# Altium schematic symbol library LPC4330FET180.Schlib: 1 symbol
Pins are listed as number, name and electrical type; pins without a type are passive.

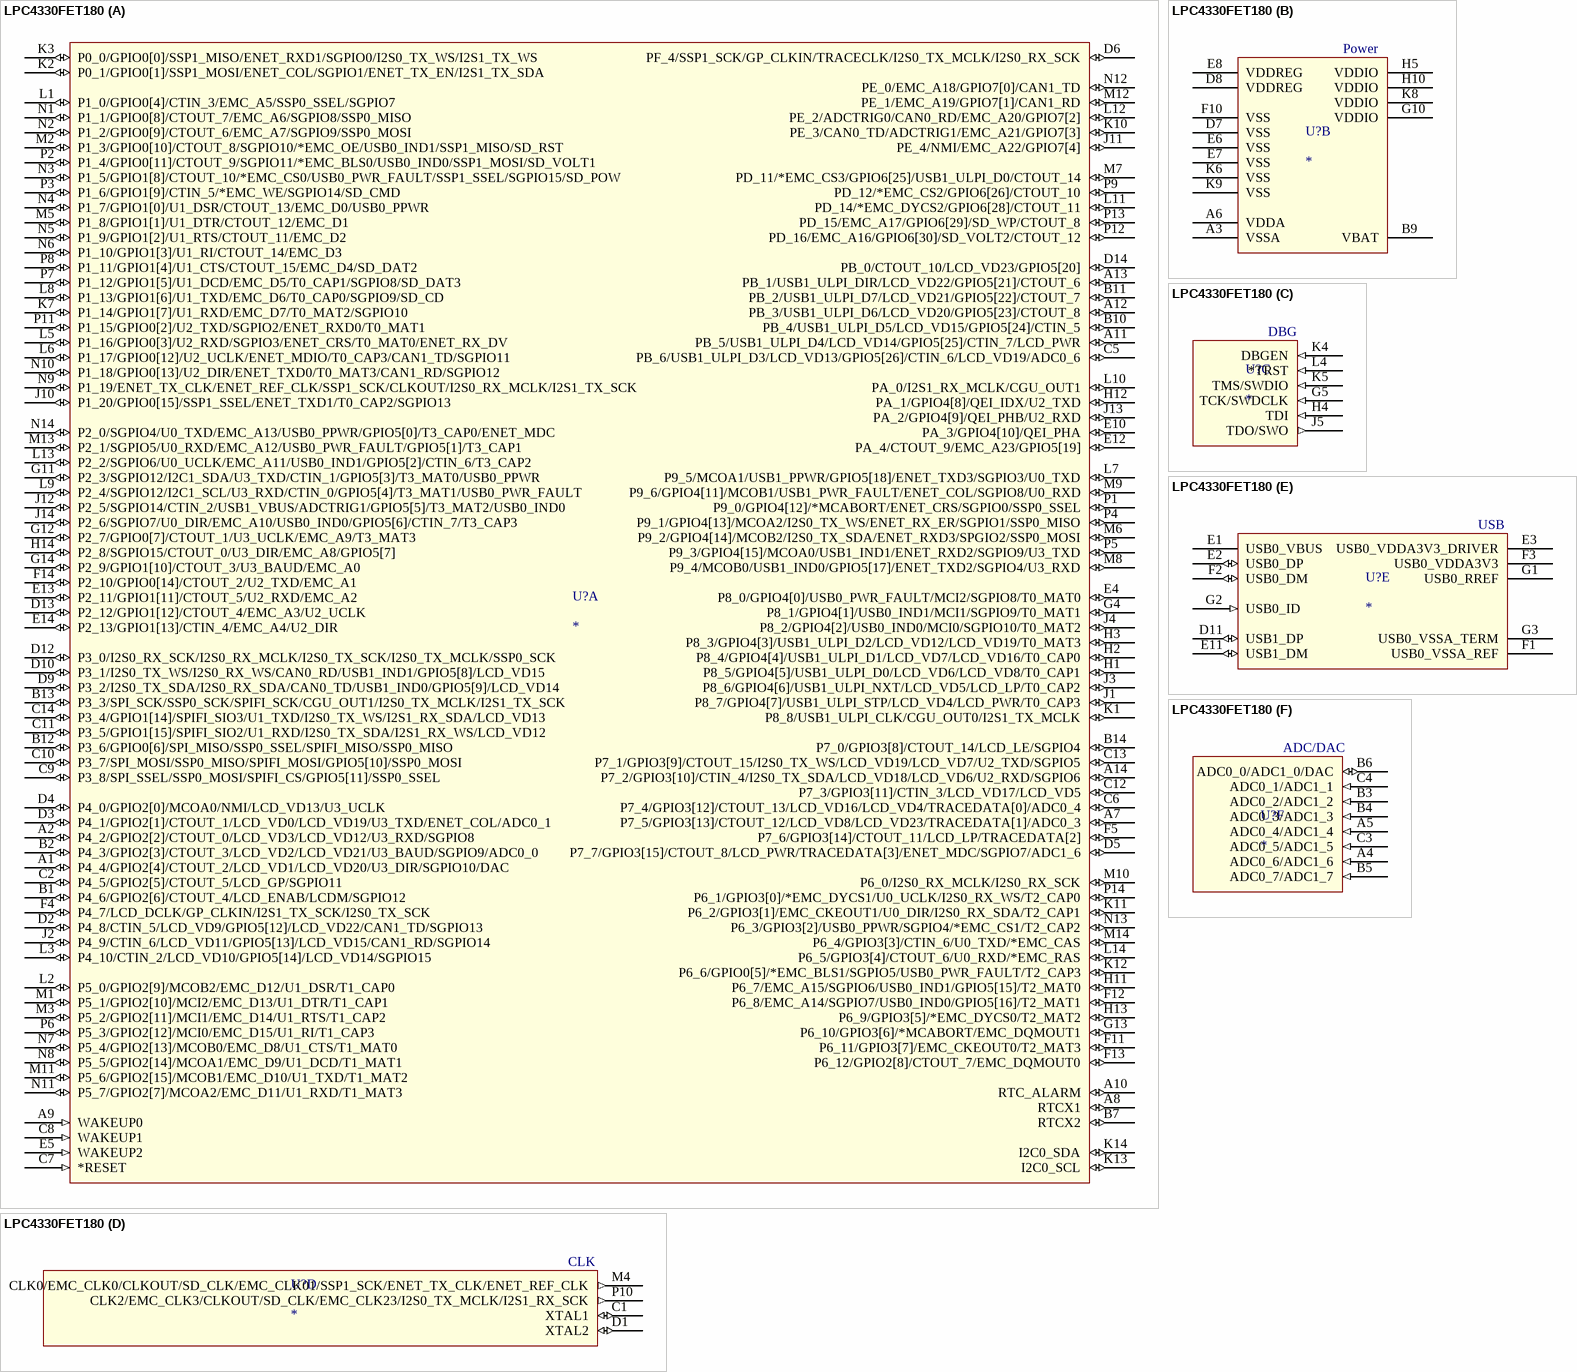
[diagram p0: symbol LPC4330FET180]

## LPC4330FET180
designator U?
part A pins: A1 P4_4/GPIO2[4]/CTOUT_2/LCD_VD1/LCD_VD20/U3_DIR/SGPIO10/DAC (io), A2 P4_2/GPIO2[2]/CTOUT_0/LCD_VD3/LCD_VD12/U3_RXD/SGPIO8 (io), A7 P7_5/GPIO3[13]/CTOUT_12/LCD_VD8/LCD_VD23/TRACEDATA[1]/ADC0_3 (io), A8 RTCX1 (io), A9 WAKEUP0 (in), A10 RTC_ALARM (io), A11 PB_5/USB1_ULPI_D4/LCD_VD14/GPIO5[25]/CTIN_7/LCD_PWR (io), A12 PB_3/USB1_ULPI_D6/LCD_VD20/GPIO5[23]/CTOUT_8 (io), A13 PB_1/USB1_ULPI_DIR/LCD_VD22/GPIO5[21]/CTOUT_6 (io), A14 P7_2/GPIO3[10]/CTIN_4/I2S0_TX_SDA/LCD_VD18/LCD_VD6/U2_RXD/SGPIO6 (io), B1 P4_6/GPIO2[6]/CTOUT_4/LCD_ENAB/LCDM/SGPIO12 (io), B2 P4_3/GPIO2[3]/CTOUT_3/LCD_VD2/LCD_VD21/U3_BAUD/SGPIO9/ADC0_0 (io), B7 RTCX2 (io), B10 PB_4/USB1_ULPI_D5/LCD_VD15/GPIO5[24]/CTIN_5 (io), B11 PB_2/USB1_ULPI_D7/LCD_VD21/GPIO5[22]/CTOUT_7 (io), B12 P3_6/GPIO0[6]/SPI_MISO/SSP0_SSEL/SPIFI_MISO/SSP0_MISO (io), B13 P3_3/SPI_SCK/SSP0_SCK/SPIFI_SCK/CGU_OUT1/I2S0_TX_MCLK/I2S1_TX_SCK (io), B14 P7_0/GPIO3[8]/CTOUT_14/LCD_LE/SGPIO4 (io), C2 P4_5/GPIO2[5]/CTOUT_5/LCD_GP/SGPIO11 (io), C5 PB_6/USB1_ULPI_D3/LCD_VD13/GPIO5[26]/CTIN_6/LCD_VD19/ADC0_6 (io), C6 P7_4/GPIO3[12]/CTOUT_13/LCD_VD16/LCD_VD4/TRACEDATA[0]/ADC0_4 (io), C7 *RESET (in), C8 WAKEUP1 (in), C9 P3_8/SPI_SSEL/SSP0_MOSI/SPIFI_CS/GPIO5[11]/SSP0_SSEL (io), C10 P3_7/SPI_MOSI/SSP0_MISO/SPIFI_MOSI/GPIO5[10]/SSP0_MOSI (io), C11 P3_5/GPIO1[15]/SPIFI_SIO2/U1_RXD/I2S0_TX_SDA/I2S1_RX_WS/LCD_VD12 (io), C12 P7_3/GPIO3[11]/CTIN_3/LCD_VD17/LCD_VD5 (io), C13 P7_1/GPIO3[9]/CTOUT_15/I2S0_TX_WS/LCD_VD19/LCD_VD7/U2_TXD/SGPIO5 (io), C14 P3_4/GPIO1[14]/SPIFI_SIO3/U1_TXD/I2S0_TX_WS/I2S1_RX_SDA/LCD_VD13 (io), D2 P4_8/CTIN_5/LCD_VD9/GPIO5[12]/LCD_VD22/CAN1_TD/SGPIO13 (io), D3 P4_1/GPIO2[1]/CTOUT_1/LCD_VD0/LCD_VD19/U3_TXD/ENET_COL/ADC0_1 (io), D4 P4_0/GPIO2[0]/MCOA0/NMI/LCD_VD13/U3_UCLK (io), D5 P7_7/GPIO3[15]/CTOUT_8/LCD_PWR/TRACEDATA[3]/ENET_MDC/SGPIO7/ADC1_6 (io), D6 PF_4/SSP1_SCK/GP_CLKIN/TRACECLK/I2S0_TX_MCLK/I2S0_RX_SCK (io), D9 P3_2/I2S0_TX_SDA/I2S0_RX_SDA/CAN0_TD/USB1_IND0/GPIO5[9]/LCD_VD14 (io), D10 P3_1/I2S0_TX_WS/I2S0_RX_WS/CAN0_RD/USB1_IND1/GPIO5[8]/LCD_VD15 (io), D12 P3_0/I2S0_RX_SCK/I2S0_RX_MCLK/I2S0_TX_SCK/I2S0_TX_MCLK/SSP0_SCK (io), D13 P2_12/GPIO1[12]/CTOUT_4/EMC_A3/U2_UCLK (io), D14 PB_0/CTOUT_10/LCD_VD23/GPIO5[20] (io), E4 P8_0/GPIO4[0]/USB0_PWR_FAULT/MCI2/SGPIO8/T0_MAT0 (io), E5 WAKEUP2 (in), E10 PA_3/GPIO4[10]/QEI_PHA (io), E12 PA_4/CTOUT_9/EMC_A23/GPIO5[19] (io), E13 P2_11/GPIO1[11]/CTOUT_5/U2_RXD/EMC_A2 (io), E14 P2_13/GPIO1[13]/CTIN_4/EMC_A4/U2_DIR (io), F4 P4_7/LCD_DCLK/GP_CLKIN/I2S1_TX_SCK/I2S0_TX_SCK (io), F5 P7_6/GPIO3[14]/CTOUT_11/LCD_LP/TRACEDATA[2] (io), F11 P6_11/GPIO3[7]/EMC_CKEOUT0/T2_MAT3 (io), F12 P6_8/EMC_A14/SGPIO7/USB0_IND0/GPIO5[16]/T2_MAT1 (io), F13 P6_12/GPIO2[8]/CTOUT_7/EMC_DQMOUT0 (io), F14 P2_10/GPIO0[14]/CTOUT_2/U2_TXD/EMC_A1 (io), G4 P8_1/GPIO4[1]/USB0_IND1/MCI1/SGPIO9/T0_MAT1 (io), G11 P2_3/SGPIO12/I2C1_SDA/U3_TXD/CTIN_1/GPIO5[3]/T3_MAT0/USB0_PPWR (io), G12 P2_7/GPIO0[7]/CTOUT_1/U3_UCLK/EMC_A9/T3_MAT3 (io), G13 P6_10/GPIO3[6]/*MCABORT/EMC_DQMOUT1 (io), G14 P2_9/GPIO1[10]/CTOUT_3/U3_BAUD/EMC_A0 (io), H1 P8_5/GPIO4[5]/USB1_ULPI_D0/LCD_VD6/LCD_VD8/T0_CAP1 (io), H2 P8_4/GPIO4[4]/USB1_ULPI_D1/LCD_VD7/LCD_VD16/T0_CAP0 (io), H3 P8_3/GPIO4[3]/USB1_ULPI_D2/LCD_VD12/LCD_VD19/T0_MAT3 (io), H11 P6_7/EMC_A15/SGPIO6/USB0_IND1/GPIO5[15]/T2_MAT0 (io), H12 PA_1/GPIO4[8]/QEI_IDX/U2_TXD (io), H13 P6_9/GPIO3[5]/*EMC_DYCS0/T2_MAT2 (io), H14 P2_8/SGPIO15/CTOUT_0/U3_DIR/EMC_A8/GPIO5[7] (io), J1 P8_7/GPIO4[7]/USB1_ULPI_STP/LCD_VD4/LCD_PWR/T0_CAP3 (io), J2 P4_9/CTIN_6/LCD_VD11/GPIO5[13]/LCD_VD15/CAN1_RD/SGPIO14 (io), J3 P8_6/GPIO4[6]/USB1_ULPI_NXT/LCD_VD5/LCD_LP/T0_CAP2 (io), J4 P8_2/GPIO4[2]/USB0_IND0/MCI0/SGPIO10/T0_MAT2 (io), J10 P1_20/GPIO0[15]/SSP1_SSEL/ENET_TXD1/T0_CAP2/SGPIO13 (io), J11 PE_4/NMI/EMC_A22/GPIO7[4] (io), J12 P2_5/SGPIO14/CTIN_2/USB1_VBUS/ADCTRIG1/GPIO5[5]/T3_MAT2/USB0_IND0 (io), J13 PA_2/GPIO4[9]/QEI_PHB/U2_RXD (io), J14 P2_6/SGPIO7/U0_DIR/EMC_A10/USB0_IND0/GPIO5[6]/CTIN_7/T3_CAP3 (io), K1 P8_8/USB1_ULPI_CLK/CGU_OUT0/I2S1_TX_MCLK (io), K2 P0_1/GPIO0[1]/SSP1_MOSI/ENET_COL/SGPIO1/ENET_TX_EN/I2S1_TX_SDA (io), K3 P0_0/GPIO0[0]/SSP1_MISO/ENET_RXD1/SGPIO0/I2S0_TX_WS/I2S1_TX_WS (io), K7 P1_14/GPIO1[7]/U1_RXD/EMC_D7/T0_MAT2/SGPIO10 (io), K10 PE_3/CAN0_TD/ADCTRIG1/EMC_A21/GPIO7[3] (io), K11 P6_2/GPIO3[1]/EMC_CKEOUT1/U0_DIR/I2S0_RX_SDA/T2_CAP1 (io), K12 P6_6/GPIO0[5]/*EMC_BLS1/SGPIO5/USB0_PWR_FAULT/T2_CAP3 (io), K13 I2C0_SCL (io), K14 I2C0_SDA (io), L1 P1_0/GPIO0[4]/CTIN_3/EMC_A5/SSP0_SSEL/SGPIO7 (io), L2 P5_0/GPIO2[9]/MCOB2/EMC_D12/U1_DSR/T1_CAP0 (io), L3 P4_10/CTIN_2/LCD_VD10/GPIO5[14]/LCD_VD14/SGPIO15 (io), L5 P1_16/GPIO0[3]/U2_RXD/SGPIO3/ENET_CRS/T0_MAT0/ENET_RX_DV (io), L6 P1_17/GPIO0[12]/U2_UCLK/ENET_MDIO/T0_CAP3/CAN1_TD/SGPIO11 (io), L7 P9_5/MCOA1/USB1_PPWR/GPIO5[18]/ENET_TXD3/SGPIO3/U0_TXD (io), L8 P1_13/GPIO1[6]/U1_TXD/EMC_D6/T0_CAP0/SGPIO9/SD_CD (io), L9 P2_4/SGPIO12/I2C1_SCL/U3_RXD/CTIN_0/GPIO5[4]/T3_MAT1/USB0_PWR_FAULT (io), L10 PA_0/I2S1_RX_MCLK/CGU_OUT1 (io), L11 PD_14/*EMC_DYCS2/GPIO6[28]/CTOUT_11 (io), L12 PE_2/ADCTRIG0/CAN0_RD/EMC_A20/GPIO7[2] (io), L13 P2_2/SGPIO6/U0_UCLK/EMC_A11/USB0_IND1/GPIO5[2]/CTIN_6/T3_CAP2 (io), L14 P6_5/GPIO3[4]/CTOUT_6/U0_RXD/*EMC_RAS (io), M1 P5_1/GPIO2[10]/MCI2/EMC_D13/U1_DTR/T1_CAP1 (io), M2 P1_3/GPIO0[10]/CTOUT_8/SGPIO10/*EMC_OE/USB0_IND1/SSP1_MISO/SD_RST (io), M3 P5_2/GPIO2[11]/MCI1/EMC_D14/U1_RTS/T1_CAP2 (io), M5 P1_8/GPIO1[1]/U1_DTR/CTOUT_12/EMC_D1 (io), M6 P9_2/GPIO4[14]/MCOB2/I2S0_TX_SDA/ENET_RXD3/SPGIO2/SSP0_MOSI (io), M7 PD_11/*EMC_CS3/GPIO6[25]/USB1_ULPI_D0/CTOUT_14 (io), M8 P9_4/MCOB0/USB1_IND0/GPIO5[17]/ENET_TXD2/SGPIO4/U3_RXD (io), M9 P9_6/GPIO4[11]/MCOB1/USB1_PWR_FAULT/ENET_COL/SGPIO8/U0_RXD (io), M10 P6_0/I2S0_RX_MCLK/I2S0_RX_SCK (io), M11 P5_6/GPIO2[15]/MCOB1/EMC_D10/U1_TXD/T1_MAT2 (io), M12 PE_1/EMC_A19/GPIO7[1]/CAN1_RD (io), M13 P2_1/SGPIO5/U0_RXD/EMC_A12/USB0_PWR_FAULT/GPIO5[1]/T3_CAP1 (io), M14 P6_4/GPIO3[3]/CTIN_6/U0_TXD/*EMC_CAS (io), N1 P1_1/GPIO0[8]/CTOUT_7/EMC_A6/SGPIO8/SSP0_MISO (io), N2 P1_2/GPIO0[9]/CTOUT_6/EMC_A7/SGPIO9/SSP0_MOSI (io), N3 P1_5/GPIO1[8]/CTOUT_10/*EMC_CS0/USB0_PWR_FAULT/SSP1_SSEL/SGPIO15/SD_POW (io), N4 P1_7/GPIO1[0]/U1_DSR/CTOUT_13/EMC_D0/USB0_PPWR (io), N5 P1_9/GPIO1[2]/U1_RTS/CTOUT_11/EMC_D2 (io), N6 P1_10/GPIO1[3]/U1_RI/CTOUT_14/EMC_D3 (io), N7 P5_4/GPIO2[13]/MCOB0/EMC_D8/U1_CTS/T1_MAT0 (io), N8 P5_5/GPIO2[14]/MCOA1/EMC_D9/U1_DCD/T1_MAT1 (io), N9 P1_19/ENET_TX_CLK/ENET_REF_CLK/SSP1_SCK/CLKOUT/I2S0_RX_MCLK/I2S1_TX_SCK (io), N10 P1_18/GPIO0[13]/U2_DIR/ENET_TXD0/T0_MAT3/CAN1_RD/SGPIO12 (io), N11 P5_7/GPIO2[7]/MCOA2/EMC_D11/U1_RXD/T1_MAT3 (io), N12 PE_0/EMC_A18/GPIO7[0]/CAN1_TD (io), N13 P6_3/GPIO3[2]/USB0_PPWR/SGPIO4/*EMC_CS1/T2_CAP2 (io), N14 P2_0/SGPIO4/U0_TXD/EMC_A13/USB0_PPWR/GPIO5[0]/T3_CAP0/ENET_MDC (io), P1 P9_0/GPIO4[12]/*MCABORT/ENET_CRS/SGPIO0/SSP0_SSEL (io), P2 P1_4/GPIO0[11]/CTOUT_9/SGPIO11/*EMC_BLS0/USB0_IND0/SSP1_MOSI/SD_VOLT1 (io), P3 P1_6/GPIO1[9]/CTIN_5/*EMC_WE/SGPIO14/SD_CMD (io), P4 P9_1/GPIO4[13]/MCOA2/I2S0_TX_WS/ENET_RX_ER/SGPIO1/SSP0_MISO (io), P5 P9_3/GPIO4[15]/MCOA0/USB1_IND1/ENET_RXD2/SGPIO9/U3_TXD (io), P6 P5_3/GPIO2[12]/MCI0/EMC_D15/U1_RI/T1_CAP3 (io), P7 P1_12/GPIO1[5]/U1_DCD/EMC_D5/T0_CAP1/SGPIO8/SD_DAT3 (io), P8 P1_11/GPIO1[4]/U1_CTS/CTOUT_15/EMC_D4/SD_DAT2 (io), P9 PD_12/*EMC_CS2/GPIO6[26]/CTOUT_10 (io), P11 P1_15/GPIO0[2]/U2_TXD/SGPIO2/ENET_RXD0/T0_MAT1 (io), P12 PD_16/EMC_A16/GPIO6[30]/SD_VOLT2/CTOUT_12 (io), P13 PD_15/EMC_A17/GPIO6[29]/SD_WP/CTOUT_8 (io), P14 P6_1/GPIO3[0]/*EMC_DYCS1/U0_UCLK/I2S0_RX_WS/T2_CAP0 (io)
part B pins: A3 VSSA (power), A6 VDDA (power), B9 VBAT (power), D7 VSS, D8 VDDREG (power), E6 VSS, E7 VSS, E8 VDDREG (power), F10 VSS, G10 VDDIO (power), H5 VDDIO (power), H10 VDDIO (power), K6 VSS, K8 VDDIO (power), K9 VSS
part C pins: G5 TCK/SWDCLK (in), H4 TDI (in), J5 TDO/SWO (out), K4 DBGEN (in), K5 TMS/SWDIO (in), L4 *TRST (in)
part D pins: C1 XTAL1 (io), D1 XTAL2 (io), M4 CLK0/EMC_CLK0/CLKOUT/SD_CLK/EMC_CLK01/SSP1_SCK/ENET_TX_CLK/ENET_REF_CLK (out), P10 CLK2/EMC_CLK3/CLKOUT/SD_CLK/EMC_CLK23/I2S0_TX_MCLK/I2S1_RX_SCK (out)
part E pins: D11 USB1_DP (io), E1 USB0_VBUS (power), E2 USB0_DP (io), E3 USB0_VDDA3V3_DRIVER (power), E11 USB1_DM (io), F1 USB0_VSSA_REF (power), F2 USB0_DM (io), F3 USB0_VDDA3V3 (power), G1 USB0_RREF (power), G2 USB0_ID (in), G3 USB0_VSSA_TERM (power)
part F pins: A4 ADC0_6/ADC1_6 (in), A5 ADC0_4/ADC1_4 (in), B3 ADC0_2/ADC1_2 (in), B4 ADC0_3/ADC1_3 (in), B5 ADC0_7/ADC1_7 (in), B6 ADC0_0/ADC1_0/DAC (io), C3 ADC0_5/ADC1_5 (in), C4 ADC0_1/ADC1_1 (in)
part B text: Power
part C text: DBG
part D text: CLK
part E text: USB
part F text: ADC/DAC